# Altium schematic symbol library pxstr_0.Schlib: 1 symbol
Pins are listed as number, name and electrical type; pins without a type are passive.

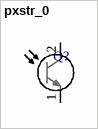
[diagram p0: symbol pxstr_0]

## pxstr_0
designator Q?  (value not drawn)
pins: 1, 2